# Altium footprint library PcbLib1.PcbLib: 35 footprints (part 1 of 3)
Each footprint in its own frame and in the unit in brackets; x right, y up, seen from the top. Pads: shape width x height; smd on the part's side, far side on the other; paste and mask are expansions set on the pad; w line width, h text height; cw(c..) or ccw(c..) is an arc to the next point about the centre after c.
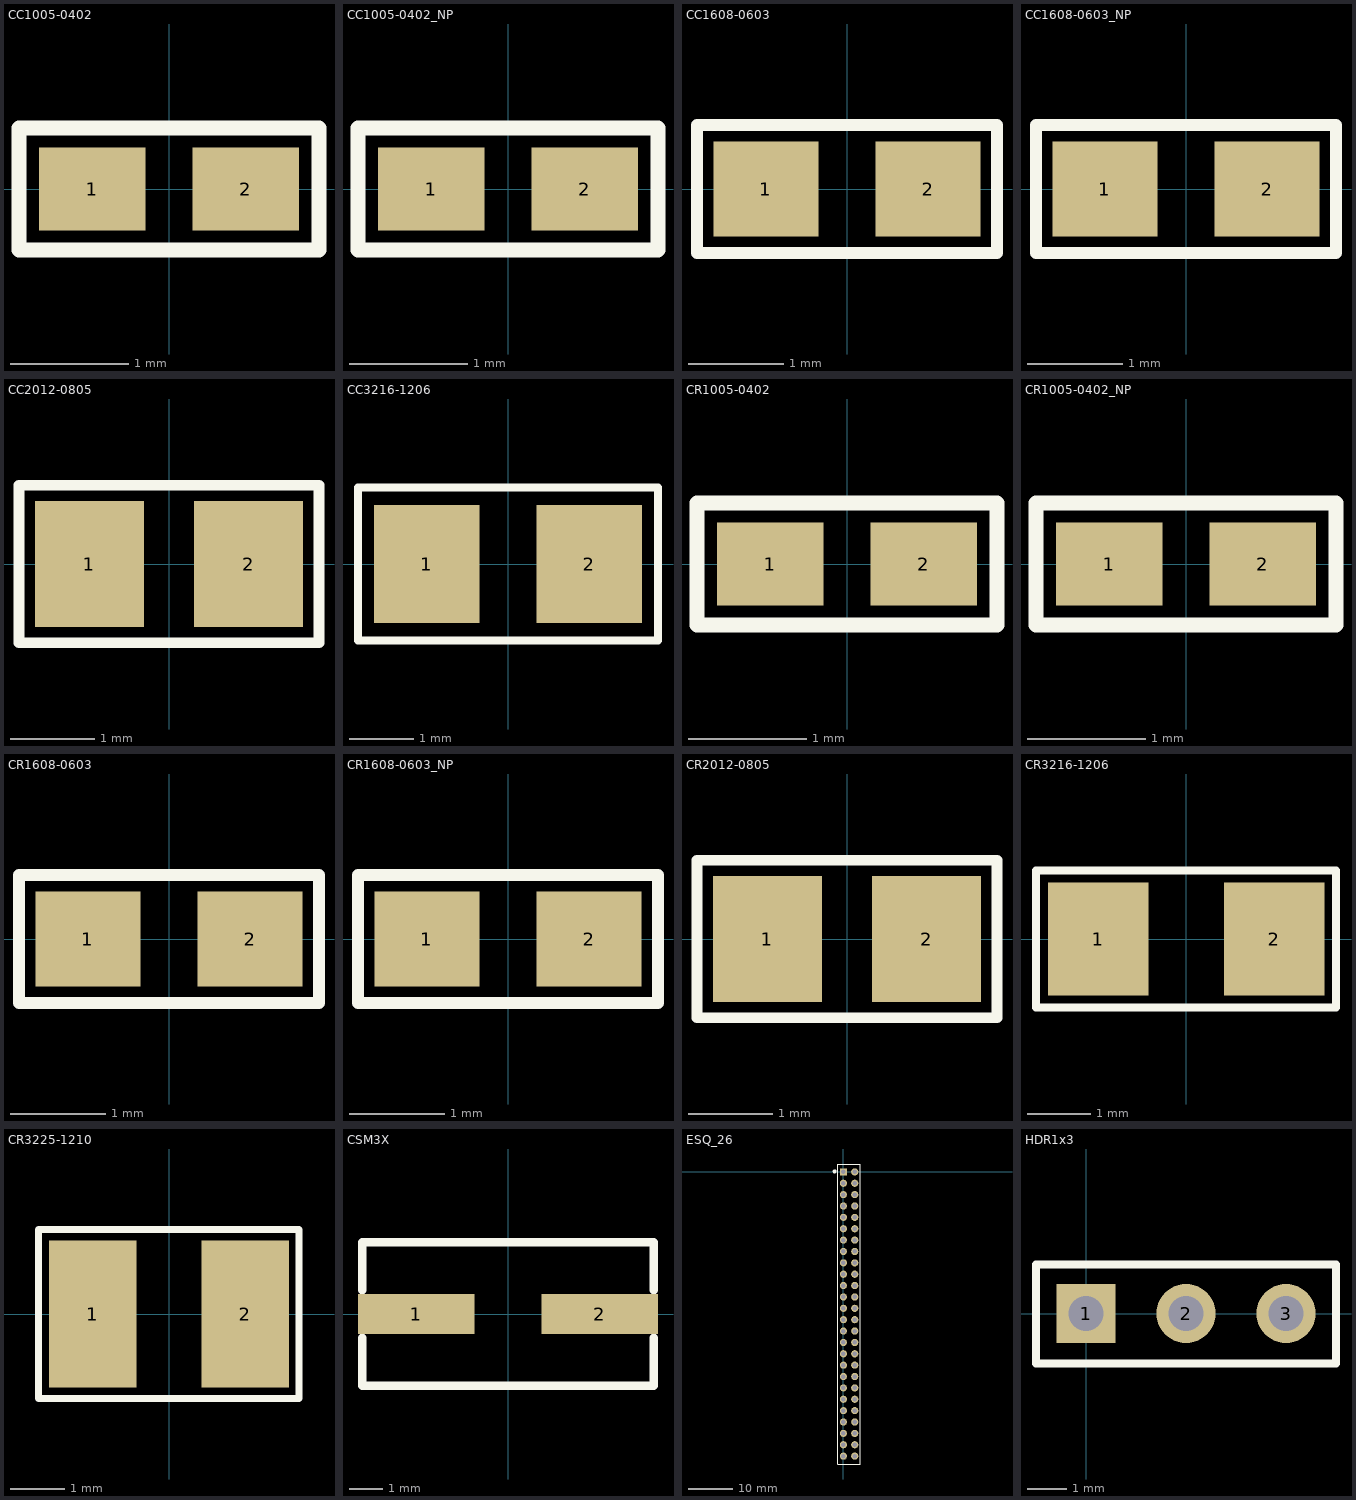
[diagram p0: the footprints below, top view; thin cyan lines are the x and y axes]

## CC1005-0402 [mm] "Chip Capacitor; Body 1.0 x 0.5 mm (LxW typ)"
height 1.35
pads (2):
  rect 0.9x0.7 smd: 1(-0.65,0) 2(0.65,0)
Top Overlay:
  lines w0.127: -1.27,-0.518 1.27,-0.518 1.27,0.518 -1.27,0.518 -1.27,-0.518
3D body "User Library-cap_0402.step": height 0.5, standoff 0, extent -0.5,-0.25 0.5,0.25

## CC1005-0402_NP [mm] "Chip Capacitor; Body 1.0 x 0.5 mm (LxW typ)"
height 1.35
pads (2):
  rect 0.9x0.7 smd: 1(-0.65,0) 2(0.65,0)
Top Overlay:
  lines w0.127: -1.27,-0.518 -1.27,0.518 1.27,0.518 1.27,-0.518 -1.27,-0.518

## CC1608-0603 [mm] "Chip Capacitor; Body 1.6 x 0.8 mm (LxW typ)"
height 1.35
pads (2):
  rect 1.1x1 smd: 1(-0.85,0) 2(0.85,0)
Top Overlay:
  lines w0.127: -1.571,-0.671 1.571,-0.671 1.571,0.671 -1.571,0.671 -1.571,-0.671
3D body "User Library-0603 SMD Capacitor.step": height 0.3, standoff 0, extent -0.8,-0.4 0.8,0.4

## CC1608-0603_NP [mm] "Chip Capacitor; Body 1.6 x 0.8 mm (LxW typ)"
height 1.35
pads (2):
  rect 1.1x1 smd: 1(-0.85,0) 2(0.85,0)
Top Overlay:
  lines w0.127: -1.571,-0.671 -1.571,0.671 1.571,0.671 1.571,-0.671 -1.571,-0.671

## CC2012-0805 [mm] "Chip Capacitor; Body 2.0 x 1.2 mm (LxW typ)"
height 1.1
pads (2):
  rect 1.3x1.5 smd: 1(-0.95,0) 2(0.95,0)
Top Overlay:
  lines w0.127: -1.788,-0.94 -1.788,0.94 1.788,0.94 1.788,-0.94 -1.788,-0.94
3D body "0805 SMD Capacitor.STEP": height 0.78, standoff 0, extent -1,-0.635 1,0.615

## CC3216-1206 [mm] "Chip Capacitor, 2-Leads, Body 3,20x1,60mm, IPC Medium Density"
height 1.8
pads (2):
  rect 1.65x1.85 smd: 1(-1.275,0) 2(1.275,0)
Top Overlay:
  lines w0.127: -2.35,-1.2 -2.35,1.2 2.35,1.2 2.35,-1.2 -2.35,-1.2
3D body: height 1.8, standoff 0, extent 0.9,-0.9 1.7,0.9
3D body: height 1.8, standoff 0, extent -1.7,-0.9 -0.9,0.9
3D body: height 1.8, standoff 0, extent -0.9,-0.9 0.9,0.9

## CR1005-0402 [mm] "Chip Resistor; Body 1.1 x 0.5 mm (LxW typ)"
height 2.54
pads (2):
  rect 0.9x0.7 smd: 1(-0.65,0) 2(0.65,0)
Top Overlay:
  lines w0.127: -1.27,-0.518 1.27,-0.518 1.27,0.518 -1.27,0.518 -1.27,-0.518
3D body "User Library-0402 SMD Resistor.step": height 0.2, standoff 0, extent -0.5,-0.3 0.5,0.3

## CR1005-0402_NP [mm] "Chip Resistor; Body 1.1 x 0.5 mm (LxW typ)"
height 2.54
pads (2):
  rect 0.9x0.7 smd: 1(-0.65,0) 2(0.65,0)
Top Overlay:
  lines w0.127: -1.27,-0.518 -1.27,0.518 1.27,0.518 1.27,-0.518 -1.27,-0.518

## CR1608-0603 [mm] "Chip Resistor; Body 1.6 x 0.8 mm (LxW typ)"
height 1.35
pads (2):
  rect 1.1x1 smd: 1(-0.85,0) 2(0.85,0)
Top Overlay:
  lines w0.127: -1.571,-0.671 1.571,-0.671 1.571,0.671 -1.571,0.671 -1.571,-0.671
3D body "User Library-0603 SMD Resistor.step": height 0.3, standoff 0, extent -0.8,-0.4 0.8,0.4

## CR1608-0603_NP [mm] "Chip Resistor; Body 1.6 x 0.8 mm (LxW typ)"
height 1.35
pads (2):
  rect 1.1x1 smd: 1(-0.85,0) 2(0.85,0)
Top Overlay:
  lines w0.127: -1.571,-0.671 -1.571,0.671 1.571,0.671 1.571,-0.671 -1.571,-0.671

## CR2012-0805 [mm] "Chip Capacitor; Body 2.0 x 1.2 mm (LxW typ)"
height 1.1
pads (2):
  rect 1.3x1.5 smd: 1(-0.95,0) 2(0.95,0)
Top Overlay:
  lines w0.127: -1.788,-0.94 -1.788,0.94 1.788,0.94 1.788,-0.94 -1.788,-0.94
3D body "Res0805.STEP": height 0.45, standoff 0, extent -1,-0.635 1,0.615

## CR3216-1206 [mm] "Chip Capacitor; Body 3.2 x 1.6 mm (LxW typ)"
height 1.35
pads (2):
  rect 1.6x1.8 smd: 1(-1.4,0) 2(1.4,0)
Top Overlay:
  lines w0.127: -2.391,-1.092 -2.391,1.092 2.385,1.092 2.385,-1.092 -2.391,-1.092
3D body "1206 SMD Resistor.STEP": height 1, standoff 0, extent -1.575,-0.813 1.625,0.787

## CR3225-1210 [mm] "Chip Capacitor; Body 3.2 x 2.5 mm (LxW typ)"
height 1.35
pads (2):
  rect 1.6x2.7 smd: 1(-1.4,0) 2(1.4,0)
Top Overlay:
  lines w0.127: -2.391,-1.549 2.385,-1.549 2.385,1.549 -2.391,1.549 -2.391,-1.549

## CSM3X [mm]
pads (2):
  rect 3.5x1.2 smd: 1(-2.75,0) 2(2.75,0)
Top Overlay:
  lines w0.254: -4.376,-0.709 -4.376,-2.159 4.376,-2.159 4.376,-0.709 ; -4.376,0.709 -4.376,2.159 4.376,2.159 4.376,0.709
3D body "User Library-CSM-3X.STEP": height 2.3, standoff 0, extent -3.749,-2.057 3.851,2.043

## ESQ_26 [mm]
pads (52):
  rect 1.6x1.6 hole 1.02: 1(0,0)
  round 1.6 hole 1.02: 2(2.54,0) 3(0,-2.54) 4(2.54,-2.54) 5(0,-5.08) 6(2.54,-5.08) 7(0,-7.62) 8(2.54,-7.62) 9(0,-10.16) 10(2.54,-10.16) 11(0,-12.7) 12(2.54,-12.7) 13(0,-15.24) 14(2.54,-15.24) 15(0,-17.78) 16(2.54,-17.78) 17(0,-20.32) 18(2.54,-20.32) 19(0,-22.86) 20(2.54,-22.86) 21(0,-25.4) 22(2.54,-25.4) 23(0,-27.94) 24(2.54,-27.94) 25(0,-30.48) 26(2.54,-30.48) 27(0,-33.02) 28(2.54,-33.02) 29(0,-35.56) 30(2.54,-35.56) 31(0,-38.1) 32(2.54,-38.1) 33(0,-40.64) 34(2.54,-40.64) 35(0,-43.18) 36(2.54,-43.18) 37(0,-45.72) 38(2.54,-45.72) 39(0,-48.26) 40(2.54,-48.26) 41(0,-50.8) 42(2.54,-50.8) 43(0,-53.34) 44(2.54,-53.34) 45(0,-55.88) 46(2.54,-55.88) 47(0,-58.42) 48(2.54,-58.42) 49(0,-60.96) 50(2.54,-60.96) 51(0,-63.5) 52(2.54,-63.5)
Top Overlay:
  circle w0.5: c-1.956,0.102 r0.178
  lines w0.254: -1.205,-65.26 -1.205,1.76 3.745,1.76 3.745,-65.26 -1.205,-65.26

## HDR1x3 [mm] "Connector; Header; 3x1 Position"
pads (3):
  rect 1.5x1.5 hole 0.9: 1(0,0)
  round 1.5 hole 0.9: 2(2.54,0) 3(5.08,0)
Top Overlay:
  lines w0.2: -1.27,-1.27 0.635,-1.27 6.35,-1.27 6.35,1.245 -1.27,1.245 -1.27,-1.27